# EAGLE library part MAX98356 (library Audio-Power-amlifier V.2.0)
The MAX98356 is a digital pulse-density modulated (PDM) input Class D power amplifier that provides Class AB audio performance with Class D efficiency. This IC offers five selectable gain settings (3dB, 6dB, 9dB, 12dB, and 15dB) set by a single gain-select input (GAIN).
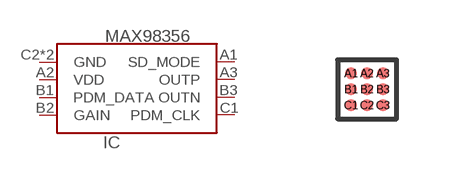
[diagram p240: symbol with the pads of WLP9; footprint WLP9]

Designator prefix IC

## MAX98356  [WLP9]
A1  SD_MODE
A2  VDD  pwr
A3  OUTP  out
B1  PDM_DATA  in
B2  GAIN
B3  OUTN  out
C1  PDM_CLK  in
C2  GND  pwr
C3  GND  pwr

## Footprint WLP9 (pad centres in mm)
WLP9 PACKAGE CODE BGA W91F1+1 www.maxim-ic.com/packages
smd 0.3 x 0.3: A1 -0.4,0.4; A2 0,0.4; A3 0.4,0.4; B1 -0.4,0; B2 0,0; B3 0.4,0; C1 -0.4,-0.4; C2 0,-0.4; C3 0.4,-0.4